# Altium integrated library SolderBridgeNC (1).IntLib: 1 symbol
Pins are listed as number, name and electrical type; pins without a type are passive.

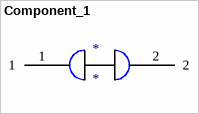
[diagram p0: symbol Component_1]

## Component_1
designator *
footprint SolderBridgeNC_V1
pins: 1, 2